# EAGLE library part MICROSD-503182 (library mbed-connectors)
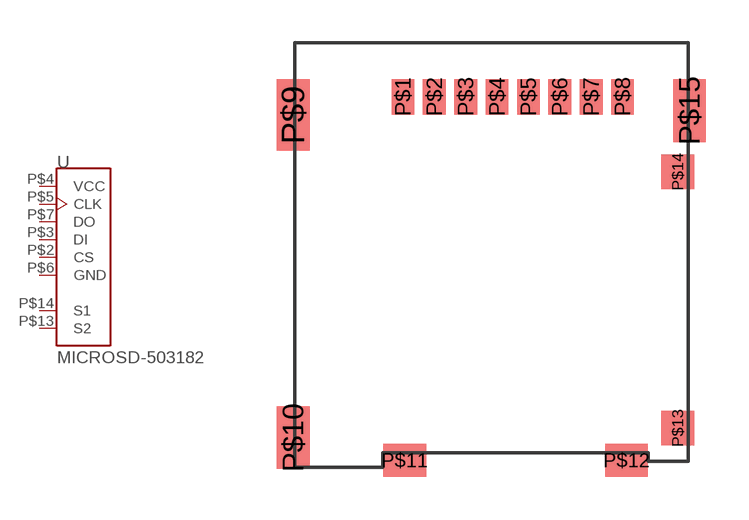
[diagram p11: symbol with the pads of MOLEX_MICROSDNEW; footprint MOLEX_MICROSDNEW]

Designator prefix U

## MICROSD-503182  [MOLEX_MICROSDNEW]
P$2  CS
P$3  DI
P$4  VCC  pas
P$5  CLK
P$6  GND  sup
P$7  DO
P$13  S2
P$14  S1

## Footprint MOLEX_MICROSDNEW (pad centres in mm)
smd 0.8 x 1.24: P$1 0,0; P$2 1.1,0; P$3 2.2,0; P$4 3.3,0; P$5 4.4,0; P$6 5.5,0; P$7 6.6,0; P$8 7.7,0
smd 1.15 x 2.5: P$9 -3.85,-0.63
smd 1.15 x 2.2: P$10 -3.85,-11.96; P$15 10.05,-0.48
smd 1.5 x 1.15: P$11 0.06,-12.76; P$12 7.84,-12.76
smd 1.16 x 1.2: P$13 9.64,-11.63; P$14 9.64,-2.63